# Altium footprint library Basov305.PcbLib: 3 footprints
Each footprint in its own frame and in the unit in brackets; x right, y up, seen from the top. Pads: shape width x height; smd on the part's side, far side on the other; paste and mask are expansions set on the pad; w line width, h text height; cw(c..) or ccw(c..) is an arc to the next point about the centre after c.
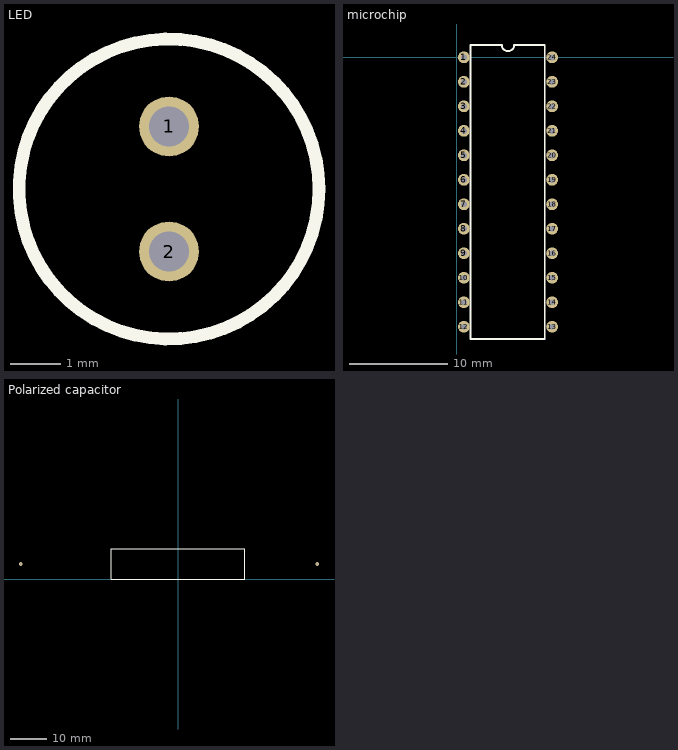
[diagram p0: the footprints below, top view; thin cyan lines are the x and y axes]

## LED [mm]
height 25
pads (2):
  round 1.2 hole 0.8: 1(5,6.25) 2(5,3.75)
Top Overlay:
  circle w0.254: c5,5 r3

## microchip [mm]
pads (24):
  round 1.2 hole 0.6: 1(0.75,0) 2(0.75,-2.5) 3(0.75,-5) 4(0.75,-7.5) 5(0.75,-10) 6(0.75,-12.5) 7(0.75,-15) 8(0.75,-17.5) 9(0.75,-20) 10(0.75,-22.5) 11(0.75,-25) 12(0.75,-27.5) 13(9.75,-27.5) 14(9.75,-25) 15(9.75,-22.5) 16(9.75,-20) 17(9.75,-17.5) 18(9.75,-15) 19(9.75,-12.5) 20(9.75,-10) 21(9.75,-7.5) 22(9.75,-5) 23(9.75,-2.5) 24(9.75,0)
Bottom Layer:
  lines w0.254: 1.5,-28.75 9,-28.75
Top Overlay:
  lines w0.2: 4.6,1.25 1.435,1.25 1.435,-28.75 8.935,-28.75 ; 4.625,1.25 ccw(c5.25,1.25) 5.875,1.25 ; 5.9,1.25 9,1.25 9,-28.75

## Polarized capacitor [mm]
height 8.5
pads (2):
  round 1 hole 0.5: 1(-43.5,4.25) 2(38.5,4.25)
Top Overlay:
  lines w0.254: -18.5,8.5 18.5,8.5 18.5,0 -18.5,0 -18.5,8.5 ; -18.5,8.5 -18.5,8.5